# Altium footprint library Connectors.PcbLib: 40 footprints (part 1 of 3)
Each footprint in its own frame and in the unit in brackets; x right, y up, seen from the top. Pads: shape width x height; smd on the part's side, far side on the other; paste and mask are expansions set on the pad; w line width, h text height; cw(c..) or ccw(c..) is an arc to the next point about the centre after c.
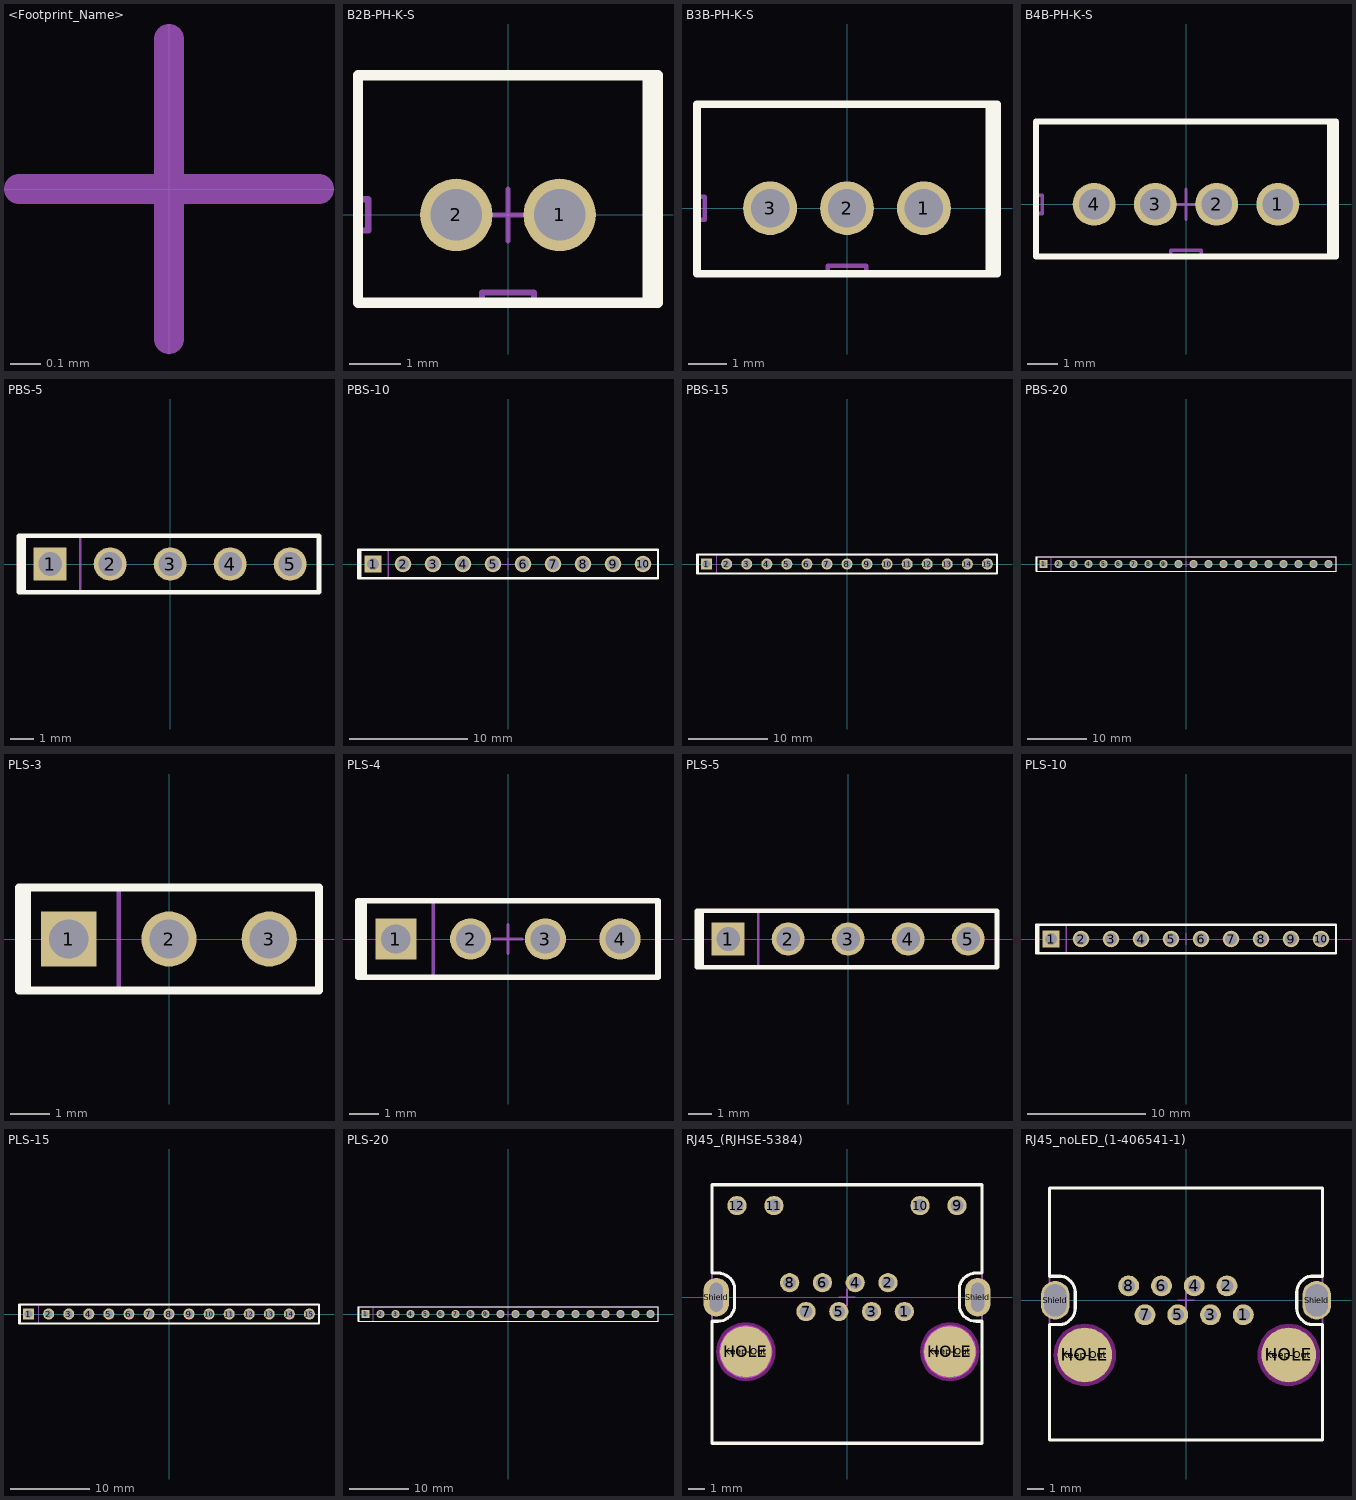
[diagram p0: the footprints below, top view; thin cyan lines are the x and y axes]

## <Footprint_Name> [mm] "<Package_Name>, <Number_of_pins>, <Pitch_in_mm>"
height 2.5
ReperDotTop:
  lines w0.1: -0.5,0 0.5,0 ; 0,-0.5 0,0.5
AssemblyOutlineTop:
  text "'.Designator'" at 0,0 h2.5

## B2B-PH-K-S [mm] "B2B-PH Package, Manufacturer JST, 2 pins, 2 mm"
height 2.5
pads (2):
  round 1.4 hole 1 unplated mask+0.1: 1(1,0) 2(-1,0)
Top Overlay:
  lines w0.2: 2.7,-1.7 2.7,2.7 ; -2.9,-1.7 -2.9,2.7 2.9,2.7 2.9,-1.7 -2.9,-1.7
ReperDotTop:
  lines w0.1: -0.5,0 0.5,0 ; 0,-0.5 0,0.5
AssemblyOutlineTop:
  lines w0.12: -2.9,-0.3 -2.7,-0.3 -2.7,0.3 -2.9,0.3 ; -0.5,-1.7 -0.5,-1.5 0.5,-1.5 0.5,-1.7 ; 2.9,-0.3 2.7,-0.3 2.7,0.3 2.9,0.3 ; -2.9,-1.7 -2.9,2.7 2.9,2.7 2.9,-1.7 -2.9,-1.7
  text "'.Designator'" at 0,0 h2.5
3D body "User Library-b2b-ph-ks-1.step": height 6.05, standoff -2.95, extent -2.95,-1.75 2.95,2.75

## B3B-PH-K-S [mm] "B3B-PH Package, Manufacturer JST, 3 pins, 2 mm"
height 2.5
pads (3):
  round 1.4 hole 1 unplated mask+0.1: 1(2,0) 2(0,0) 3(-2,0)
Top Overlay:
  lines w0.2: 3.7,-1.7 3.7,2.7 ; -3.9,-1.7 3.9,-1.7 3.9,2.7 -3.9,2.7 -3.9,-1.7
ReperDotTop:
  lines w0.1: -0.5,0 0.5,0 ; 0,-0.5 0,0.5
AssemblyOutlineTop:
  lines w0.12: -3.9,-0.3 -3.7,-0.3 -3.7,0.3 -3.9,0.3 ; -0.5,-1.7 -0.5,-1.5 0.5,-1.5 0.5,-1.7 ; 3.9,-0.3 3.7,-0.3 3.7,0.3 3.9,0.3 ; -3.9,-1.7 3.9,-1.7 3.9,2.7 -3.9,2.7 -3.9,-1.7
  text "'.Designator'" at 0,0 h2.5
3D body "User Library-B3B-PH-K-S(LF)(SN).step": height 6, standoff -3.4, extent -3.95,-1.75 3.95,2.75

## B4B-PH-K-S [mm] "B4B-PH Package, Manufacturer JST, 4 pins, 2 mm"
height 2.5
pads (4):
  round 1.4 hole 1 unplated mask+0.1: 1(3,0) 2(1,0) 3(-1,0) 4(-3,0)
Top Overlay:
  lines w0.2: 4.7,-1.7 4.7,2.7 ; -4.9,-1.7 4.9,-1.7 4.9,2.7 -4.9,2.7 -4.9,-1.7
ReperDotTop:
  lines w0.1: -0.5,0 0.5,0 ; 0,-0.5 0,0.5
AssemblyOutlineTop:
  lines w0.12: -4.9,-0.3 -4.7,-0.3 -4.7,0.3 -4.9,0.3 ; -0.5,-1.7 -0.5,-1.5 0.5,-1.5 0.5,-1.7 ; 4.9,-0.3 4.7,-0.3 4.7,0.3 4.9,0.3 ; -4.9,-1.7 4.9,-1.7 4.9,2.7 -4.9,2.7 -4.9,-1.7
  text "'.Designator'" at 0,0 h2.5
3D body "User Library-b4b-ph-k-s.step": height 6, standoff -3, extent -4.95,-1.75 4.95,2.75

## PBS-5 [mm] "PBS Package, 5 pins, Pitch 2.54mm (0.1inch)"
height 2.5
pads (5):
  rect 1.4x1.4 hole 1 unplated mask+0.1: 1(-5.08,0)
  round 1.4 hole 1 unplated mask+0.1: 2(-2.54,0) 3(0,0) 4(2.54,0) 5(5.08,0)
Top Overlay:
  lines w0.2: -6.2,-1.2 -6.2,1.2 ; -6.4,-1.2 6.3,-1.2 6.3,1.2 -6.4,1.2 -6.4,-1.2
ReperDotTop:
  lines w0.1: -0.5,0 0.5,0 ; 0,-0.5 0,0.5
AssemblyOutlineTop:
  lines w0.12: -3.81,-1.2 -3.81,1.2 ; -6.3,-1.2 -6.3,1.2 6.3,1.2 6.3,-1.2 -6.3,-1.2
  text "'.Designator'" at 0,0 h2.5
3D body "User Library-PBS-05.step": height 8.45, standoff -3.15, extent -6.35,-1.27 6.35,1.27

## PBS-10 [mm] "PBS Package, 10 pins, Pitch 2.54mm (0.1inch)"
height 2.5
pads (10):
  rect 1.4x1.4 hole 1 unplated mask+0.1: 1(-11.43,0)
  round 1.4 hole 1 unplated mask+0.1: 2(-8.89,0) 3(-6.35,0) 4(-3.81,0) 5(-1.27,0) 6(1.27,0) 7(3.81,0) 8(6.35,0) 9(8.89,0) 10(11.43,0)
Top Overlay:
  lines w0.2: -12.5,-1.2 -12.5,1.2 ; -12.7,-1.2 -12.7,1.2 12.7,1.2 12.7,-1.2 -12.7,-1.2
ReperDotTop:
  lines w0.1: -0.5,0 0.5,0 ; 0,-0.5 0,0.5
AssemblyOutlineTop:
  lines w0.12: -10.16,-1.2 -10.16,1.2 ; -12.7,-1.2 12.7,-1.2 12.7,1.2 -12.7,1.2 -12.7,-1.2
  text "'.Designator'" at 0,0 h2.5
3D body "User Library-PBS-05.step": height 8.45, standoff -3.15, extent 0,-1.27 12.7,1.27
3D body "User Library-PBS-05.step": height 8.45, standoff -3.15, extent -12.7,-1.27 0,1.27

## PBS-15 [mm] "PBS Package, 15pins, Pitch 2.54mm (0.1inch)"
height 2.5
pads (15):
  rect 1.4x1.4 hole 1 unplated mask+0.1: 1(-17.78,0)
  round 1.4 hole 1 unplated mask+0.1: 2(-15.24,0) 3(-12.7,0) 4(-10.16,0) 5(-7.62,0) 6(-5.08,0) 7(-2.54,0) 8(0,0) 9(2.54,0) 10(5.08,0) 11(7.62,0) 12(10.16,0) 13(12.7,0) 14(15.24,0) 15(17.78,0)
Top Overlay:
  lines w0.2: -18.82,-1.2 -18.82,1.2 ; -19,-1.2 -19,1.2 19,1.2 19,-1.2 -19,-1.2
ReperDotTop:
  lines w0.1: -0.5,0 0.5,0 ; 0,-0.5 0,0.5
AssemblyOutlineTop:
  lines w0.12: -16.51,-1.2 -16.51,1.2 ; -19,-1.2 19,-1.2 19,1.2 -19,1.2 -19,-1.2
  text "'.Designator'" at 0,0 h2.5
3D body "User Library-PBS-05.step": height 8.45, standoff -3.15, extent -6.35,-1.27 6.35,1.27
3D body "User Library-PBS-05.step": height 8.45, standoff -3.15, extent -19.05,-1.27 -6.35,1.27
3D body "User Library-PBS-05.step": height 8.45, standoff -3.15, extent 6.35,-1.27 19.05,1.27

## PBS-20 [mm] "PBS Package, 20 pins, Pitch 2.54mm (0.1inch)"
height 2.5
pads (20):
  rect 1.4x1.4 hole 1 unplated mask+0.1: 1(-24.13,0)
  round 1.4 hole 1 unplated mask+0.1: 2(-21.59,0) 3(-19.05,0) 4(-16.51,0) 5(-13.97,0) 6(-11.43,0) 7(-8.89,0) 8(-6.35,0) 9(-3.81,0) 10(-1.27,0) 11(1.27,0) 12(3.81,0) 13(6.35,0) 14(8.89,0) 15(11.43,0) 16(13.97,0) 17(16.51,0) 18(19.05,0) 19(21.59,0) 20(24.13,0)
Top Overlay:
  lines w0.2: -25.2,-1.2 -25.2,1.2 ; -25.4,-1.2 -25.4,1.2 25.4,1.2 25.4,-1.2 -25.4,-1.2
ReperDotTop:
  lines w0.1: -0.5,0 0.5,0 ; 0,-0.5 0,0.5
AssemblyOutlineTop:
  lines w0.12: -22.86,-1.2 -22.86,1.2 ; -25.4,-1.2 25.4,-1.2 25.4,1.2 -25.4,1.2 -25.4,-1.2
  text "'.Designator'" at 0,0 h2.5
3D body "User Library-PBS-05.step": height 8.45, standoff -3.15, extent -12.7,-1.27 0,1.27
3D body "User Library-PBS-05.step": height 8.45, standoff -3.15, extent -25.4,-1.27 -12.7,1.27
3D body "User Library-PBS-05.step": height 8.45, standoff -3.15, extent 0,-1.27 12.7,1.27
3D body "User Library-PBS-05.step": height 8.45, standoff -3.15, extent 12.7,-1.27 25.4,1.27

## PLS-3 [mm] "PLS Connector, 3 pin, Pitch 2.54mm (0.1inch)"
height 2.5
pads (3):
  rect 1.4x1.4 hole 1: 1(-2.54,0)
  round 1.4 hole 1: 2(0,0) 3(2.54,0)
Top Overlay:
  lines w0.2: -3.6,-1.3 -3.6,1.3 ; -3.8,-1.3 -3.8,1.3 3.8,1.3 3.8,-1.3 -3.8,-1.3
ReperDotTop:
  lines w0.1: -0.5,0 0.5,0 ; 0,-0.5 0,0.5
AssemblyOutlineTop:
  lines w0.12: -1.27,-1.3 -1.27,1.3 ; -3.8,-1.3 -3.8,1.3 3.8,1.3 3.8,-1.3 -3.8,-1.3
  text "'.Designator'" at 0,0 h2.5
3D body "User Library-PLS-3.step": height 8.54, standoff -3, extent -3.81,-1.275 3.81,1.265

## PLS-4 [mm] "PLS Connector, 4 pin, Pitch 2.54mm (0.1inch)"
height 2.5
pads (4):
  rect 1.4x1.4 hole 1: 1(-3.81,0)
  round 1.4 hole 1: 2(-1.27,0) 3(1.27,0) 4(3.81,0)
Top Overlay:
  lines w0.2: -4.9,-1.3 -4.9,1.3 ; -5.1,-1.3 -5.1,1.3 5.1,1.3 5.1,-1.3 -5.1,-1.3
ReperDotTop:
  lines w0.1: -0.5,0 0.5,0 ; 0,-0.5 0,0.5
AssemblyOutlineTop:
  lines w0.12: -2.54,-1.3 -2.54,1.3 ; -5.1,-1.3 -5.1,1.3 5.1,1.3 5.1,-1.3 -5.1,-1.3
  text "'.Designator'" at 0,0 h2.5
3D body "User Library-PLS-2.step": height 8.59, standoff -2.95, extent 0,-1.27 5.08,1.27
3D body "User Library-PLS-2.step": height 8.59, standoff -2.95, extent -5.08,-1.27 0,1.27

## PLS-5 [mm] "PLS Package, 5 pins, Pitch 2.54mm (0.1inch)"
height 2.5
pads (5):
  rect 1.4x1.4 hole 1 unplated mask+0.1: 1(-5.08,0)
  round 1.4 hole 1 unplated mask+0.1: 2(-2.54,0) 3(0,0) 4(2.54,0) 5(5.08,0)
Top Overlay:
  lines w0.2: -6.2,-1.2 -6.2,1.2 ; -6.4,-1.2 -6.4,1.2 6.3,1.2 6.3,-1.2 -6.4,-1.2
ReperDotTop:
  lines w0.1: -0.5,0 0.5,0 ; 0,-0.5 0,0.5
AssemblyOutlineTop:
  lines w0.12: -3.81,-1.2 -3.81,1.2 ; -6.3,-1.2 6.3,-1.2 6.3,1.2 -6.3,1.2 -6.3,-1.2
  text "'.Designator'" at 0,0 h2.5
3D body "User Library-PLS-5.step": height 8.59, standoff -2.95, extent -6.35,-1.27 6.35,1.27

## PLS-10 [mm] "PLS Package, 10 pins, Pitch 2.54mm (0.1inch)"
height 2.5
pads (10):
  rect 1.4x1.4 hole 1 unplated mask+0.1: 1(-11.43,0)
  round 1.4 hole 1 unplated mask+0.1: 2(-8.89,0) 3(-6.35,0) 4(-3.81,0) 5(-1.27,0) 6(1.27,0) 7(3.81,0) 8(6.35,0) 9(8.89,0) 10(11.43,0)
Top Overlay:
  lines w0.2: -12.5,-1.2 -12.5,1.2 ; -12.7,-1.2 12.7,-1.2 12.7,1.2 -12.7,1.2 -12.7,-1.2
ReperDotTop:
  lines w0.1: -0.5,0 0.5,0 ; 0,-0.5 0,0.5
AssemblyOutlineTop:
  lines w0.12: -10.16,-1.2 -10.16,1.2 ; -12.7,-1.2 -12.7,1.2 12.7,1.2 12.7,-1.2 -12.7,-1.2
  text "'.Designator'" at 0,0 h2.5
3D body "User Library-PLS-5.step": height 8.59, standoff -2.95, extent -12.7,-1.27 0,1.27
3D body "User Library-PLS-5.step": height 8.59, standoff -2.95, extent 0,-1.27 12.7,1.27

## PLS-15 [mm] "PLS Package, 15pins, Pitch 2.54mm (0.1inch)"
height 2.5
pads (15):
  rect 1.4x1.4 hole 1 unplated mask+0.1: 1(-17.78,0)
  round 1.4 hole 1 unplated mask+0.1: 2(-15.24,0) 3(-12.7,0) 4(-10.16,0) 5(-7.62,0) 6(-5.08,0) 7(-2.54,0) 8(0,0) 9(2.54,0) 10(5.08,0) 11(7.62,0) 12(10.16,0) 13(12.7,0) 14(15.24,0) 15(17.78,0)
Top Overlay:
  lines w0.2: -18.82,-1.2 -18.82,1.2 ; -19,-1.2 19,-1.2 19,1.2 -19,1.2 -19,-1.2
ReperDotTop:
  lines w0.1: -0.5,0 0.5,0 ; 0,-0.5 0,0.5
AssemblyOutlineTop:
  lines w0.12: -16.51,-1.2 -16.51,1.2 ; -19,-1.2 -19,1.2 19,1.2 19,-1.2 -19,-1.2
  text "'.Designator'" at 0,0 h2.5
3D body "User Library-PLS-5.step": height 8.59, standoff -2.95, extent 6.35,-1.27 19.05,1.27
3D body "User Library-PLS-5.step": height 8.59, standoff -2.95, extent -6.35,-1.27 6.35,1.27
3D body "User Library-PLS-5.step": height 8.59, standoff -2.95, extent -19.05,-1.27 -6.35,1.27

## PLS-20 [mm] "PLS Package, 20 pins, Pitch 2.54mm (0.1inch)"
height 2.5
pads (20):
  rect 1.4x1.4 hole 1 unplated mask+0.1: 1(-24.13,0)
  round 1.4 hole 1 unplated mask+0.1: 2(-21.59,0) 3(-19.05,0) 4(-16.51,0) 5(-13.97,0) 6(-11.43,0) 7(-8.89,0) 8(-6.35,0) 9(-3.81,0) 10(-1.27,0) 11(1.27,0) 12(3.81,0) 13(6.35,0) 14(8.89,0) 15(11.43,0) 16(13.97,0) 17(16.51,0) 18(19.05,0) 19(21.59,0) 20(24.13,0)
Top Overlay:
  lines w0.2: -25.2,-1.2 -25.2,1.2 ; -25.4,-1.2 -25.4,1.2 25.4,1.2 25.4,-1.2 -25.4,-1.2
ReperDotTop:
  lines w0.1: -0.5,0 0.5,0 ; 0,-0.5 0,0.5
AssemblyOutlineTop:
  lines w0.12: -22.86,-1.2 -22.86,1.2 ; -25.4,-1.2 25.4,-1.2 25.4,1.2 -25.4,1.2 -25.4,-1.2
  text "'.Designator'" at 0,0 h2.5
3D body "User Library-PLS-5.step": height 8.59, standoff -2.95, extent 12.7,-1.27 25.4,1.27
3D body "User Library-PLS-5.step": height 8.59, standoff -2.95, extent 0,-1.27 12.7,1.27
3D body "User Library-PLS-5.step": height 8.59, standoff -2.95, extent -12.7,-1.27 0,1.27
3D body "User Library-PLS-5.step": height 8.59, standoff -2.95, extent -25.4,-1.27 -12.7,1.27

## RJ45_(RJHSE-5384) [mm] "8P8C/RJ45 Connector, Amphenol Type RJHSE-5384, 2 red and 2 green LED"
height 2.5
pads (18):
  round 1.2 hole 0.8: 1(3.57,-0.9) 2(2.55,0.9) 3(1.53,-0.9) 4(0.51,0.9) 5(-0.51,-0.9) 6(-1.53,0.9) 7(-2.55,-0.9) 8(-3.57,0.9)
  round 1.2 hole 0.8 mask+0.102: 9(6.85,5.7) 10(4.55,5.7) 11(-4.55,5.7) 12(-6.85,5.7)
  round 3.2 all layers, no hole mask+0: HOLE(-6.3,-3.4) HOLE(6.4,-3.4)
  round 3.7 on Keep-Out: Keep-Out(-6.3,-3.4) Keep-Out(6.4,-3.4)
  rrect100% 1.6x2.4 hole 0.8 slot 1.8 at 90 deg: Shield(-8.14,0) Shield(8.14,0)
Top Overlay:
  lines w0.2: -8.4,-9.1 -8.4,-1.5 -8.049,-1.5 ccw(c-8.049,-0.417) -7.283,-1.183 ccw(c-7.966,-0.5) -7,-0.5 -7,0.5 ccw(c-7.966,0.5) -7.283,1.183 ccw(c-8.049,0.417) -8.049,1.5 -8.4,1.5 -8.4,7 8.4,7 8.4,1.5 8.049,1.5 ccw(c8.049,0.417) 7.283,1.183 ccw(c7.966,0.5) 7,0.5 7,-0.5 ccw(c7.966,-0.5) 7.283,-1.183 ccw(c8.049,-0.417) 8.049,-1.5 8.4,-1.5 8.4,-9.1 -8.4,-9.1
ReperDotTop:
  lines w0.1: -0.5,0 0.5,0 ; 0,-0.5 0,0.5
AssemblyOutlineTop:
  circle w0.12: c-6.3,-3.4 r1.6
  circle w0.12: c6.4,-3.4 r1.6
  lines w0.12: -8.4,-9.1 8.4,-9.1 8.4,7 -8.4,7 -8.4,-9.1
  text "'.Designator'" at 0,0 h2.5
3D body "ACC-M-RJHSE-X38X-A1-REVT1.step": height 15.22, standoff -3.62, extent -8.415,-9.15 8.415,7.053

## RJ45_noLED_(1-406541-1) [mm] "8P8C/RJ45 Connector, TE Connectivity Type 1-406541-1, No LED"
height 2.5
pads (14):
  round 1.3 hole 0.8: 1(3.57,-0.9) 2(2.55,0.9) 3(1.53,-0.9) 4(0.51,0.9) 5(-0.51,-0.9) 6(-1.53,0.9) 7(-2.55,-0.9) 8(-3.57,0.9)
  round 3.4 all layers, no hole mask+0: HOLE(-6.3,-3.4) HOLE(6.4,-3.4)
  round 3.9 on Keep-Out: Keep-Out(-6.3,-3.4) Keep-Out(6.4,-3.4)
  rrect100% 1.8x2.4 hole 1.4 slot 2 at 90 deg: Shield(-8.14,0) Shield(8.14,0)
Top Overlay:
  lines w0.2: -8.5,-8.7 8.5,-8.7 8.5,-1.5 7.8,-1.5 cw(c7.8,-0.776) 7.288,-1.288 7.183,-1.183 cw(c7.866,-0.5) 6.9,-0.5 6.9,0.5 cw(c7.866,0.5) 7.183,1.183 7.288,1.288 cw(c7.8,0.776) 7.8,1.5 8.5,1.5 8.5,7 -8.5,7 -8.5,1.5 -7.8,1.5 cw(c-7.8,0.776) -7.288,1.288 -7.183,1.183 cw(c-7.866,0.5) -6.9,0.5 -6.9,-0.5 cw(c-7.866,-0.5) -7.183,-1.183 -7.288,-1.288 cw(c-7.8,-0.776) -7.8,-1.5 -8.5,-1.5 -8.5,-8.7
ReperDotTop:
  lines w0.1: -0.5,0 0.5,0 ; 0,-0.5 0,0.5
AssemblyOutlineTop:
  circle w0.12: c6.4,-3.4 r1.6
  circle w0.12: c-6.3,-3.4 r1.6
  lines w0.12: -8.5,-8.7 -8.5,7 8.5,7 8.5,-8.7 -8.5,-8.7
  text "'.Designator'" at 0,0 h2.5
3D body "c-1-406541-1-l-3d.stp": height 14.6, standoff -4.15, extent -9.321,-8.7 9.322,7.048